# EAGLE library part INA (library bluepill)
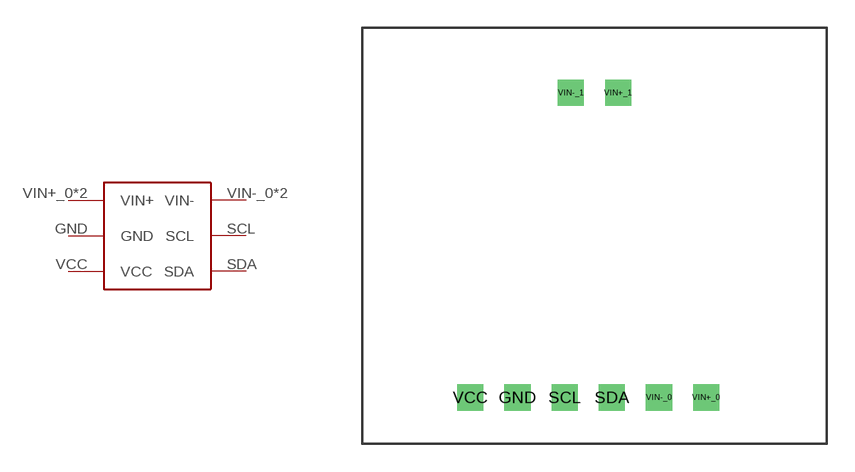
[diagram p10: symbol with the pads of INA; footprint INA]

Designator prefix -

## INA  [INA]
GND  GND
SCL  SCL
SDA  SDA
VCC  VCC
VIN+_0  VIN+
VIN+_1  VIN+
VIN-_0  VIN-
VIN-_1  VIN-

## Footprint INA (pad centres in mm)
drill 0.9 square: GND -4.15,-8.7; SCL -1.61,-8.7; SDA 0.93,-8.7; VCC -6.69,-8.7; VIN+_0 6.01,-8.7; VIN+_1 1.27,7.7; VIN-_0 3.47,-8.7; VIN-_1 -1.27,7.7